# EAGLE library part KMDGX-8S-N (library KMDGX-8S-N)
Circular DIN Connectors 8P R/A NO SHIELD GOLD PLATED Source: Datasheet <https://componentsearchengine.com/Datasheets/1/KMDGX-8S-N.pdf>
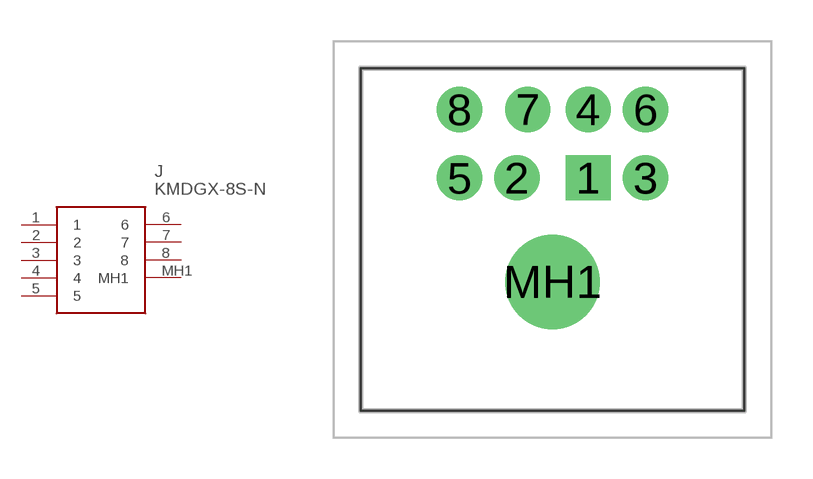
[diagram p0: symbol with the pads of KMDGX8SN; footprint KMDGX8SN]

Designator prefix J

## KMDGX-8S-N (Description: Circular DIN Connectors 8P R/A NO SHIELD GOLD PLATED; Height: 13mm; Manufacturer_Name: Kycon; Manufacturer_Part_Number: KMDGX-8S-N; Mouser_Part_Number: 806-KMDGX-8S-N; Mouser_Price-Stock: https://www.mouser.com/Search/Refine.aspx?Keyword=806-KMDGX-8S-N)  [KMDGX8SN]
1  1
2  2
3  3
4  4
5  5
6  6
7  7
8  8
MH1  MH1

## Footprint KMDGX8SN (pad centres in mm)
KMDGX-8S-N-3
drill 1.1 pad 1.65 square: 1 0,0
drill 1.1 pad 1.65: 2 -2.6,0; 3 2.1,0; 4 0,2.5; 5 -4.7,0; 6 2.1,2.5; 7 -2.2,2.5; 8 -4.7,2.5
drill 2.3 pad 3.45: MH1 -1.3,-3.8